# Altium schematic symbol library LED(GREEN, 3V, 150mA, SMD-1411).SchLib: 1 symbol
Pins are listed as number, name and electrical type; pins without a type are passive.

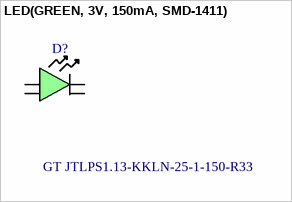
[diagram p0: symbol LED(GREEN, 3V, 150mA, SMD-1411)]

## LED(GREEN, 3V, 150mA, SMD-1411)
designator D?, comment GT JTLPS1.13-KKLN-25-1-150-R33
High Power LEDs - Single Colour True Green DURIS E 2835; Manufacturer: ams-OSRAM USA INC.; Manufacturer_PN: GT JTLPS1.13-KKLN-25-1-150-R33; Package: SMD-1411; Datasheet: https://look.ams-osram.com/m/66d7a1fb69ea7e82/original/GT-JTLPS1-13.pdf; Digikey_Link: https://www.digikey.it/en/products/detail/ams-osram-usa-inc/GT-JTLPS1-13-KKLN-25-1-150-R33/16820475?s=N4IgTCBcDaIOIBUAEApBAZACgZQIwDpcBmAWgGkz0A5EsAVhNxAF0BfIA
footprint PCBComponent_1
pins: 1 K_1, 2 A_1, 3 K_2, 4 A_2